# Altium footprint library mehdi2309.PcbLib: 4 footprints
Each footprint in its own frame and in the unit in brackets; x right, y up, seen from the top. Pads: shape width x height; smd on the part's side, far side on the other; paste and mask are expansions set on the pad; w line width, h text height; cw(c..) or ccw(c..) is an arc to the next point about the centre after c.
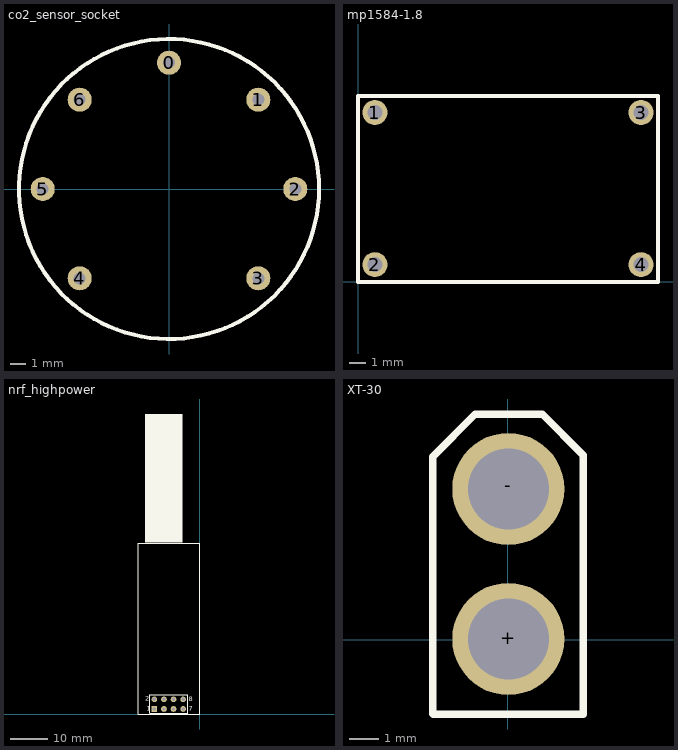
[diagram p0: the footprints below, top view; thin cyan lines are the x and y axes]

## co2_sensor_socket [mil]
pads (7):
  round 60 hole 30: 0(0,314.96) 1(222.71,222.71) 2(314.96,0) 3(222.71,-222.71) 4(-222.71,-222.71) 5(-314.96,0) 6(-222.71,222.71)
Top Overlay:
  circle w10: c0,0 r374.02

## mp1584-1.8 [mm]
pads (4):
  round 1.5 hole 0.9: 1(1.016,10.16) 2(1.016,1.016) 3(17.016,10.16) 4(17.016,1.016)
Top Overlay:
  lines w0.254: 0,-0.025 0,11.151 18.034,11.151 18.034,-0.025 0,-0.025

## nrf_highpower [mm]
pads (8):
  rect 1.5x1.5 hole 0.9: 1(-12.065,1.397)
  round 1.5 hole 0.9: 2(-12.065,3.937) 3(-9.525,1.397) 4(-9.525,3.937) 5(-6.985,1.397) 6(-6.985,3.937) 7(-4.445,1.397) 8(-4.445,3.937)
Top Overlay:
  rectangle: -14.572,45.593 -4.572,79.793
  lines w0.2: -13.335,0.254 -13.335,5.207 -3.175,5.207 -3.175,0.254 -13.335,0.254
  lines w0.254: -16.383,0.059 -16.383,45.466 0,45.466 0,0.059 -16.35,0.059
  text "8" at -2.921,3.429 h1.27
  text "7" at -2.921,0.889 h1.27
  text "1" at -14.097,0.889 h1.27
  text "2" at -14.478,3.556 h1.27

## XT-30 [mm]
pads (2):
  round 3.8 hole 2.75: +(0.025,0.025) -(0.025,5.105)
Top Overlay:
  lines w0.254: -2.54,-2.515 -2.54,6.198 -1.092,7.645 1.169,7.645 2.565,6.248 2.565,-2.515 -2.514,-2.515